# Altium schematic symbol library SW-SPDT-3.SchLib: 1 symbol
Pins are listed as number, name and electrical type; pins without a type are passive.

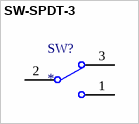
[diagram p0: symbol SW-SPDT-3]

## SW-SPDT-3
designator SW?
pins: 1, 2, 3